# EAGLE library part AD8616 (library Arduino Dev Parts)
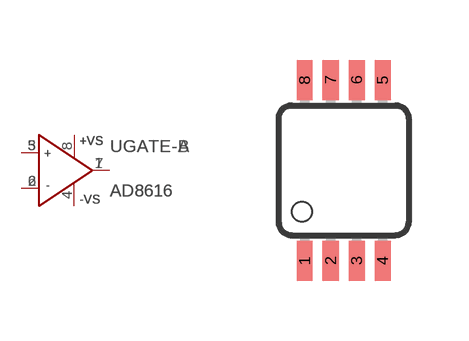
[diagram p2: symbol with the pads of MSOP08; footprint MSOP08]

Designator prefix U; gates GATE-A=OP+- PWR=OPVS GATE-B=OP+-

## AD8616 (MF: ANALOG DEVICES; MPN: AD8606ARMZ-REEL; OC_FARNELL: 1838883)  [MSOP08]
1  GATE-A:OUT  out
2  GATE-A:IN-  in
3  GATE-A:IN+  in
4  PWR:-VS  pwr
5  GATE-B:IN+  in
6  GATE-B:IN-  in
7  GATE-B:OUT  out
8  PWR:+VS  pwr

## Footprint MSOP08 (pad centres in mm)
8-Lead micro SO (RM-8) Source: http://www.analog.com/UploadedFiles/Data_Sheets/703465986AD8611_2_0.pdf
smd 0.4 x 1: 1 -0.976,-2.263; 2 -0.326,-2.263; 3 0.324,-2.263; 4 0.974,-2.263; 5 0.974,2.262; 6 0.324,2.262; 7 -0.326,2.262; 8 -0.976,2.262